# EAGLE library part PINHD-1X21 (library pinhead)
PIN HEADER
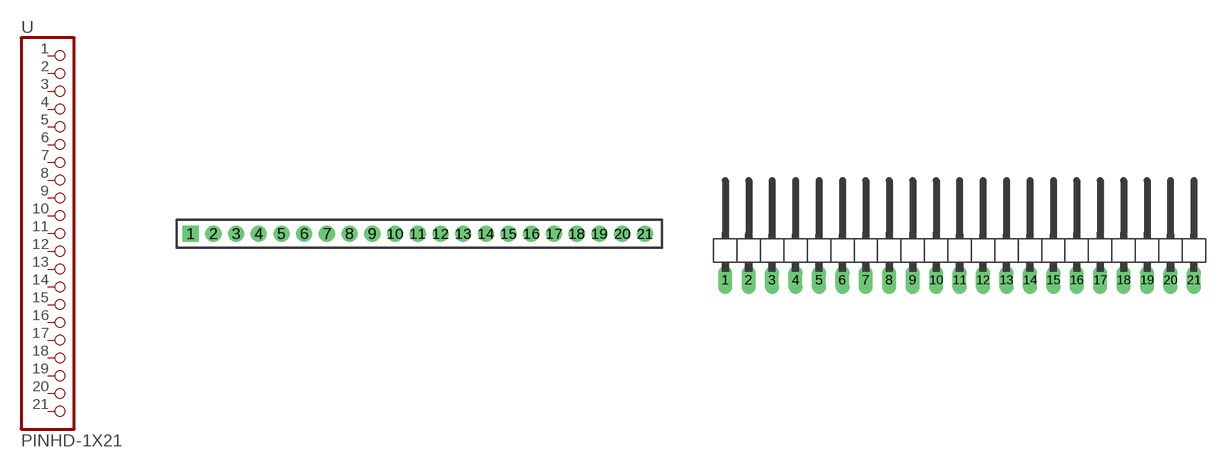
[diagram p41: symbol with the pads of 1X21M; footprints 1X21M, 1X21/90]

Designator prefix -

## PINHD-1X21_2.00  [1X21M]
1  1  pas
2  2  pas
3  3  pas
4  4  pas
5  5  pas
6  6  pas
7  7  pas
8  8  pas
9  9  pas
10  10  pas
11  11  pas
12  12  pas
13  13  pas
14  14  pas
15  15  pas
16  16  pas
17  17  pas
18  18  pas
19  19  pas
20  20  pas
21  21  pas

## PINHD-1X21_2.54-90°  [1X21/90]
Pads as for 1X21M

## PINHD-1X21_2.54  [1X21]
Pads as for 1X21M

## PINHD-1X21_2.54-SMD  [1X21SMD]
Pads as for 1X21M

## PINHD-1X21_2.54-SMD-90°  [1X21SMD/90]
Pads as for 1X21M

## Footprint 1X21M (pad centres in mm)
PIN HEADER - 2
drill 0.914 square: 1 -19,0
drill 0.914 round: 2 -17,0; 3 -15,0; 4 -13,0; 5 -11,0; 6 -9,0; 7 -7,0; 8 -5,0; 9 -3,0; 10 -1,0; 11 1,0; 12 3,0; 13 5,0; 14 7,0; 15 9,0; 16 11,0; 17 13,0; 18 15,0; 19 17,0; 20 19,0; 21 21,0

## Footprint 1X21/90 (pad centres in mm)
PIN HEADER - 2.54 90°
drill 1.016 long: 1 -24.13,-3.81; 2 -21.59,-3.81; 3 -19.05,-3.81; 4 -16.51,-3.81; 5 -13.97,-3.81; 6 -11.43,-3.81; 7 -8.89,-3.81; 8 -6.35,-3.81; 9 -3.81,-3.81; 10 -1.27,-3.81; 11 1.27,-3.81; 12 3.81,-3.81; 13 6.35,-3.81; 14 8.89,-3.81; 15 11.43,-3.81; 16 13.97,-3.81; 17 16.51,-3.81; 18 19.05,-3.81; 19 21.59,-3.81; 20 24.13,-3.81; 21 26.67,-3.81

## Footprint 1X21 (pad centres in mm)
PIN HEADER - 2.54
drill 1.016 long: 1 -24.13,0; 2 -21.59,0; 3 -19.05,0; 4 -16.51,0; 5 -13.97,0; 6 -11.43,0; 7 -8.89,0; 8 -6.35,0; 9 -3.81,0; 10 -1.27,0; 11 1.27,0; 12 3.81,0; 13 6.35,0; 14 8.89,0; 15 11.43,0; 16 13.97,0; 17 16.51,0; 18 19.05,0; 19 21.59,0; 20 24.13,0; 21 26.67,0

## Footprint 1X21SMD (pad centres in mm)
PIN HEADER - SMD
smd 1.016 x 3.302: 1 -1.27,1.27; 2 1.27,-1.27; 3 3.81,1.27; 4 6.35,-1.27; 5 8.89,1.27; 6 11.43,-1.27; 7 13.97,1.27; 8 16.51,-1.27; 9 19.05,1.27; 10 21.59,-1.27; 11 24.13,1.27; 12 26.67,-1.27; 13 29.21,1.27; 14 31.75,-1.27; 15 34.29,1.27; 16 36.83,-1.27; 17 39.37,1.27; 18 41.91,-1.27; 19 44.45,1.27; 20 46.99,-1.27; 21 49.53,1.27

## Footprint 1X21SMD/90 (pad centres in mm)
PIN HEADER - 2.54 90°
smd 1.016 x 1.778: 1 -1.27,-5.08; 2 1.27,-5.08; 3 3.81,-5.08; 4 6.35,-5.08; 5 8.89,-5.08; 6 11.43,-5.08; 7 13.97,-5.08; 8 16.51,-5.08; 9 19.05,-5.08; 10 21.59,-5.08; 11 24.13,-5.08; 12 26.67,-5.08; 13 29.21,-5.08; 14 31.75,-5.08; 15 34.29,-5.08; 16 36.83,-5.08; 17 39.37,-5.08; 18 41.91,-5.08; 19 44.45,-5.08; 20 46.99,-5.08; 21 49.53,-5.08